# EAGLE library part 65C22 (library ds_ic_peripherals)
W65C22 (W65C22N and W65C22S) Versatile Interface Adapter (VIA)
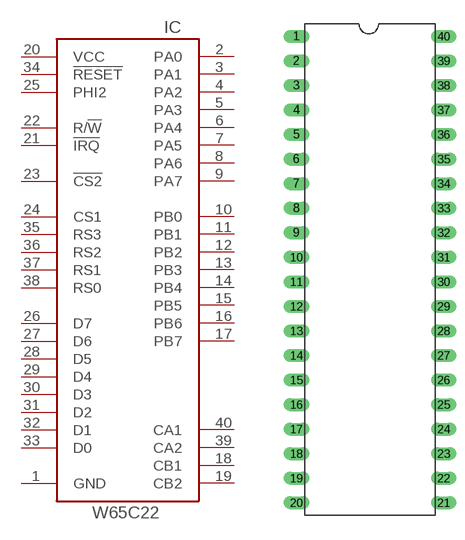
[diagram p69: symbol with the pads of DIP40; footprint DIP40]

Designator prefix IC

## 65C22  [DIP40]
1  GND
2  PA0
3  PA1
4  PA2
5  PA3
6  PA4
7  PA5
8  PA6
9  PA7
10  PB0
11  PB1
12  PB2
13  PB3
14  PB4
15  PB5
16  PB6
17  PB7
18  CB1
19  CB2
20  VCC
21  !IRQ
22  R/!W
23  !CS2
24  CS1
25  PHI2
26  D7
27  D6
28  D5
29  D4
30  D3
31  D2
32  D1
33  D0
34  !RESET
35  RS3
36  RS2
37  RS1
38  RS0
39  CA2
40  CA1

## Footprint DIP40 (pad centres in mm)
drill 0.813 long: 1 -7.62,24.13; 2 -7.62,21.59; 3 -7.62,19.05; 4 -7.62,16.51; 5 -7.62,13.97; 6 -7.62,11.43; 7 -7.62,8.89; 8 -7.62,6.35; 9 -7.62,3.81; 10 -7.62,1.27; 11 -7.62,-1.27; 12 -7.62,-3.81; 13 -7.62,-6.35; 14 -7.62,-8.89; 15 -7.62,-11.43; 16 -7.62,-13.97; 17 -7.62,-16.51; 18 -7.62,-19.05; 19 -7.62,-21.59; 20 -7.62,-24.13; 21 7.62,-24.13; 22 7.62,-21.59; 23 7.62,-19.05; 24 7.62,-16.51; 25 7.62,-13.97; 26 7.62,-11.43; 27 7.62,-8.89; 28 7.62,-6.35; 29 7.62,-3.81; 30 7.62,-1.27; 31 7.62,1.27; 32 7.62,3.81; 33 7.62,6.35; 34 7.62,8.89; 35 7.62,11.43; 36 7.62,13.97; 37 7.62,16.51; 38 7.62,19.05; 39 7.62,21.59; 40 7.62,24.13